# EAGLE library part OPA642 (library burr-brown)
Operational Amplifier Wideband, Low Distortion
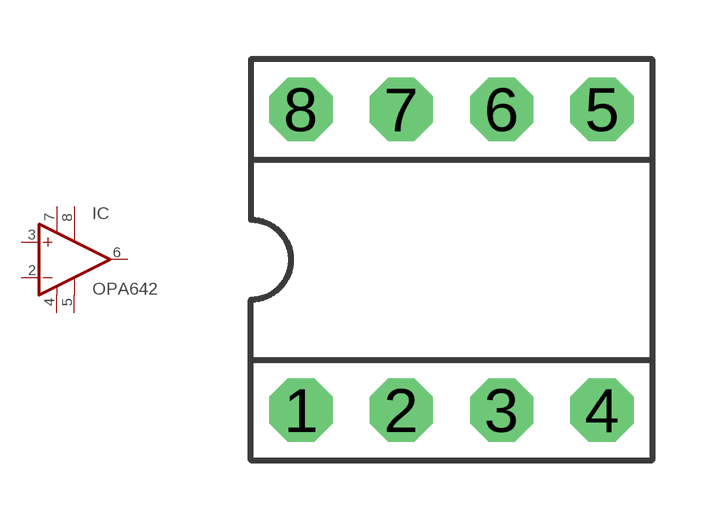
[diagram p15: symbol with the pads of DIL08; footprint DIL08]

Designator prefix IC

## OPA642P (MPN: AD9631ANZ; OC_FARNELL: unknown; OC_NEWARK: 19M1012)  [DIL08]
2  -IN  in
3  +IN  in
4  -VS1  pwr
5  -VS2  pwr
6  OUT  out
7  +VS1  pwr
8  +VS2  pwr

## Footprint DIL08 (pad centres in mm)
Dual In Line
drill 0.813 pad 1.6 octagon: 1 -3.81,-3.81; 2 -1.27,-3.81; 3 1.27,-3.81; 4 3.81,-3.81; 5 3.81,3.81; 6 1.27,3.81; 7 -1.27,3.81; 8 -3.81,3.81